# Altium schematic symbol library EP4CE55F23C8N.SchLib: 1 symbol
Pins are listed as number, name and electrical type; pins without a type are passive.

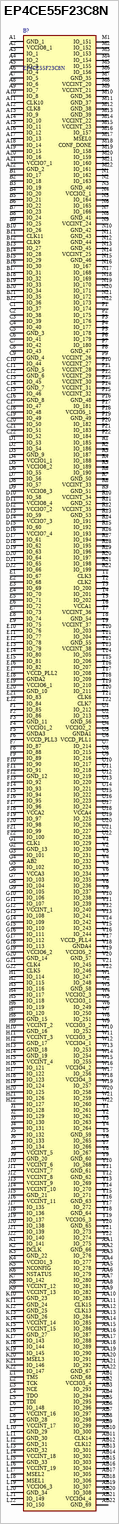
[diagram p0: symbol EP4CE55F23C8N]

## EP4CE55F23C8N
designator B?
FPGA - Field Programmable Gate Array FPGA - Cyclone IV E 3491 LABs 324 IOs; Manufacturer_Name: Intel; Geometry.Height: 2.4mm; Manufacturer_Part_Number: EP4CE55F23C8N; Mouser Part Number: 989-EP4CE55F23C8N; Mouser Price/Stock: https://www.mouser.co.uk/ProductDetail/Altera/EP4CE55F23C8N?qs=jblrfmjbeiF3merBMihRew%3D%3D; Arrow Part Number: EP4CE55F23C8N; Arrow Price/Stock: https://www.arrow.com/en/products/ep4ce55f23c8n/alteraintel-programmable-solutions?utm_currency=USD&region=nac; Datasheet Link: https://www.intel.com/content/dam/www/programmable/us/en/pdfs/literature/packaging/04r00416-03.pdf
footprint BGA484C100P22X22_2300X2300X240
pins: A1 GND_1, A2 VCCIO8_1, A3 IO_1, A4 IO_2, A5 IO_3, A6 IO_4, A7 IO_5, A8 IO_6, A9 IO_7, A10 IO_8, A11 CLK10, A12 CLK8, A13 IO_9, A14 IO_10, A15 IO_11, A16 IO_12, A17 IO_13, A18 IO_14, A19 IO_15, A20 IO_16, A21 VCCIO7_1, A22 GND_2, AA1 IO_275, AA2 GND_66, AA3 IO_276, AA4 IO_277, AA5 IO_278, AA6 IO_279, AA7 IO_280, AA8 IO_281, AA9 IO_282, AA10 IO_283, AA11 CLK15, AA12 CLK13, AA13 IO_284, AA14 IO_285, AA15 IO_286, AA16 IO_287, AA17 IO_288, AA18 IO_289, AA19 IO_290, AA20 IO_291, AA21 IO_292, AA22 GND_67, AB1 GND_68, AB2 VCCIO3_4, AB3 IO_293, AB4 IO_294, AB5 IO_295, AB6 IO_296, AB7 IO_297, AB8 IO_298, AB9 IO_299, AB10 IO_300, AB11 CLK14, AB12 CLK12, AB13 IO_301, AB14 IO_302, AB15 IO_303, AB16 IO_304, AB17 IO_305, AB18 IO_306, AB19 IO_307, AB20 IO_308, AB21 VCCIO4_4, AB22 GND_69, B1 IO_17, B2 IO_18, B3 IO_19, B4 IO_20, B5 IO_21, B6 IO_22, B7 IO_23, B8 IO_24, B9 IO_25, B10 IO_26, B11 CLK11, B12 CLK9, B13 IO_27, B14 IO_28, B15 IO_29, B16 IO_30, B17 IO_31, B18 IO_32, B19 IO_33, B20 IO_34, B21 IO_35, B22 IO_36, C1 IO_37, C2 IO_38, C3 IO_39, C4 IO_40, C5 GND_3, C6 IO_41, C7 IO_42, C8 IO_43, C9 GND_4, C10 IO_44, C11 GND_5, C12 GND_6, C13 IO_45, C14 GND_7, C15 IO_46, C16 GND_8, C17 IO_47, C18 IO_48, C19 IO_49, C20 IO_50, C21 IO_51, C22 IO_52, D1 IO_53, D2 IO_54, D3 GND_9, D4 VCCIO1_1, D5 VCCIO8_2, D6 IO_55, D7 IO_56, D8 IO_57, D9 VCCIO8_3, D10 IO_58, D11 VCCIO8_4, D12 VCCIO7_2, D13 IO_59, D14 VCCIO7_3, D15 IO_60, D16 VCCIO7_4, D17 IO_61, D18 IO_62, D19 IO_63, D20 IO_64, D21 IO_65, D22 IO_66, E1 IO_67, E2 IO_68, E3 IO_69, E4 IO_70, E5 IO_71, E6 IO_72, E7 IO_73, E8 IO_74, E9 IO_75, E10 IO_76, E11 IO_77, E12 IO_78, E13 IO_79, E14 IO_80, E15 IO_81, E16 IO_82, E17 VCCD_PLL2, E18 GNDA2, E19 VCCIO6_1, E20 GND_10, E21 IO_83, E22 IO_84, F1 IO_85, F2 IO_86, F3 GND_11, F4 VCCIO1_2, F5 GNDA3, F6 VCCD_PLL3, F7 IO_87, F8 IO_88, F9 IO_89, F10 IO_90, F11 IO_91, F12 GND_12, F13 IO_92, F14 IO_93, F15 IO_94, F16 IO_95, F17 IO_96, F18 VCCA2, F19 IO_97, F20 IO_98, F21 IO_99, F22 IO_100, G1 CLK1, G2 GND_13, G3 IO_101, G4 AB2, G5 IO_102, G6 VCCA3, G7 IO_103, G8 IO_104, G9 IO_105, G10 IO_106, G11 IO_107, G12 VCCINT_1, G13 IO_108, G14 IO_109, G15 IO_110, G16 IO_111, G17 IO_112, G18 IO_113, G19 VCCIO6_2, G20 GND_14, G21 CLK4, G22 CLK5, H1 IO_114, H2 IO_115, H3 IO_116, H4 IO_117, H5 IO_118, H6 IO_119, H7 IO_120, H8 GND_15, H9 VCCINT_2, H10 GND_16, H11 VCCINT_3, H12 GND_17, H13 GND_18, H14 GND_19, H15 VCCINT_4, H16 IO_121, H17 IO_122, H18 IO_123, H19 IO_124, H20 IO_125, H21 IO_126, H22 IO_127, J1 IO_128, J2 IO_129, J3 IO_130, J4 IO_131, J5 IO_132, J6 IO_133, J7 IO_134, J8 VCCINT_5, J9 GND_20, J10 VCCINT_6, J11 VCCINT_7, J12 VCCINT_8, J13 VCCINT_9, J14 VCCINT_10, J15 GND_21, J16 VCCINT_11, J17 IO_135, J18 IO_136, J19 IO_137, J20 IO_138, J21 IO_139, J22 IO_140, K1 IO_141, K2 DCLK, K3 GND_22, K4 VCCIO1_3, K5 NCONFIG, K6 NSTATUS, K7 IO_142, K8 VCCINT_12, K9 VCCINT_13, K10 GND_23, K11 GND_24, K12 GND_25, K13 GND_26, K14 VCCINT_14, K15 VCCINT_15, K16 GND_27, K17 IO_143, K18 IO_144, K19 IO_145, K20 MSEL3, K21 IO_146, K22 IO_147, L1 TMS, L2 TCK, L3 NCE, L4 TDO, L5 TDI, L6 IO_148, L7 VCCINT_16, L8 GND_28, L9 VCCINT_17, L10 GND_29, L11 GND_30, L12 GND_31, L13 GND_32, L14 VCCINT_18, L15 GND_33, L16 VCCINT_19, L17 MSEL2, L18 MSEL1, L19 VCCIO6_3, L20 GND_34, L21 IO_149, L22 IO_150, M1 IO_151, M2 IO_152, M3 IO_153, M4 IO_154, M5 IO_155, M6 IO_156, M7 GND_35, M8 VCCINT_20, M9 VCCINT_21, M10 GND_36, M11 GND_37, M12 GND_38, M13 GND_39, M14 VCCINT_22, M15 VCCINT_23, M16 IO_157, M17 MSEL0, M18 CONF_DONE, M19 IO_158, M20 IO_159, M21 IO_160, M22 IO_161, N1 IO_162, N2 IO_163, N3 GND_40, N4 VCCIO2_1, N5 IO_164, N6 IO_165, N7 IO_166, N8 GND_41, N9 VCCINT_24, N10 GND_42, N11 GND_43, N12 GND_44, N13 GND_45, N14 VCCINT_25, N15 GND_46, N16 IO_167, N17 IO_168, N18 IO_169, N19 IO_170, N20 IO_171, N21 IO_172, N22 IO_173, P1 IO_174, P2 IO_175, P3 IO_176, P4 IO_177, P5 IO_178, P6 IO_179, P7 IO_180, P8 GND_47, P9 VCCINT_26, P10 VCCINT_27, P11 VCCINT_28, P12 VCCINT_29, P13 VCCINT_30, P14 VCCINT_31, P15 VCCINT_32, P16 GND_48, P17 IO_181, P18 VCCIO5_1, P19 GND_49, P20 IO_182, P21 IO_183, P22 IO_184, R1 IO_185, R2 IO_186, R3 IO_187, R4 IO_188, R5 IO_189, R6 IO_190, R7 GND_50, R8 VCCINT_33, R9 GND_51, R10 VCCINT_34, R11 GND_52, R12 VCCINT_35, R13 GND_53, R14 IO_191, R15 IO_192, R16 IO_193, R17 IO_194, R18 IO_195, R19 IO_196, R20 IO_197, R21 IO_198, R22 IO_199, T1 CLK3, T2 CLK2, T3 IO_200, T4 IO_201, T5 IO_202, T6 VCCA1, T7 VCCINT_36, T8 GND_54, T9 VCCINT_37, T10 IO_203, T11 IO_204, T12 GND_55, T13 VCCINT_38, T14 IO_205, T15 IO_206, T16 IO_207, T17 IO_208, T18 IO_209, T19 IO_210, T20 IO_211, T21 CLK6, T22 CLK7, U1 IO_212, U2 IO_213, U3 GND_56, U4 VCCIO2_2, U5 GNDA1, U6 VCCD_PLL1, U7 IO_214, U8 IO_215, U9 IO_216, U10 IO_217, U11 IO_218, U12 IO_219, U13 IO_220, U14 IO_221, U15 IO_222, U16 IO_223, U17 IO_224, U18 VCCA4, U19 IO_225, U20 IO_226, U21 IO_227, U22 IO_228, V1 IO_229, V2 IO_230, V3 IO_231, V4 IO_232, V5 IO_233, V6 IO_234, V7 IO_235, V8 IO_236, V9 IO_237, V10 IO_238, V11 IO_239, V12 IO_240, V13 IO_241, V14 IO_242, V15 IO_243, V16 IO_244, V17 VCCD_PLL4, V18 GNDA4, V19 VCCIO5_2, V20 GND_57, V21 IO_245, V22 IO_246, W1 IO_247, W2 IO_248, W3 GND_58, W4 VCCIO2_3, W5 VCCIO3_1, W6 IO_249, W7 IO_250, W8 IO_251, W9 VCCIO3_2, W10 IO_252, W11 VCCIO3_3, W12 VCCIO4_1, W13 IO_253, W14 IO_254, W15 IO_255, W16 VCCIO4_2, W17 IO_256, W18 VCCIO4_3, W19 IO_257, W20 IO_258, W21 IO_259, W22 IO_260, Y1 IO_261, Y2 IO_262, Y3 IO_263, Y4 IO_264, Y5 GND_59, Y6 IO_265, Y7 IO_266, Y8 IO_267, Y9 GND_60, Y10 IO_268, Y11 GND_61, Y12 GND_62, Y13 IO_269, Y14 IO_270, Y15 IO_271, Y16 GND_63, Y17 IO_272, Y18 GND_64, Y19 VCCIO5_3, Y20 GND_65, Y21 IO_273, Y22 IO_274